# Altium schematic symbol library IR2101PBF.SchLib: 1 symbol
Pins are listed as number, name and electrical type; pins without a type are passive.

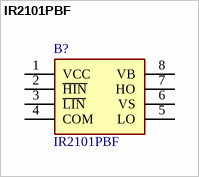
[diagram p0: symbol IR2101PBF]

## IR2101PBF
designator B?
Gate Drivers HI LO SIDE DRVR 600V 130mA 50ns; Manufacturer_Name: Infineon; Geometry.Height: 5.33mm; Mouser Part Number: 942-IR2101PBF; Mouser Price/Stock: https://www.mouser.co.uk/ProductDetail/Infineon-Technologies/IR2101PBF?qs=dQmlx5f5cRISttR4zG0olw%3D%3D; Manufacturer_Part_Number: IR2101PBF; Datasheet Link: https://www.infineon.com/cms/en/product/power/gate-driver-ics/?
footprint DIP762W56P254L988H533Q8N
pins: 1 VCC, 2 ~{HIN}, 3 ~{LIN}, 4 COM, 5 LO, 6 VS, 7 HO, 8 VB